# EAGLE library part PINHDR_2X4 (library yapo)
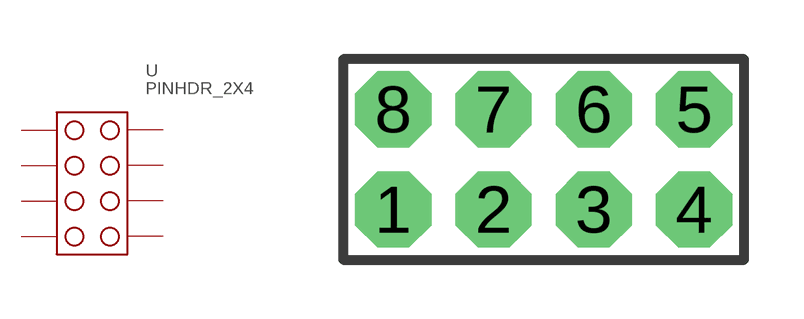
[diagram p32: symbol with the pads of PINHDR_2X4; footprint PINHDR_2X4]

Designator prefix -

## PINHDR_2X4  [PINHDR_2X4]
1  1
2  2
3  3
4  4
5  5
6  6
7  7
8  8

## Footprint PINHDR_2X4 (pad centres in mm)
drill 1 pad 1.93 octagon: 1 -3.81,-1.27; 2 -1.27,-1.27; 3 1.27,-1.27; 4 3.81,-1.27; 5 3.81,1.27; 6 1.27,1.27; 7 -1.27,1.27; 8 -3.81,1.27